# EAGLE library part RJ45-B-1_1 (library RJ45-B-1_1)
RJ45 12 1 Through Hole Ethernet Connectors/Modular Connectors (RJ45 RJ11 Source: Datasheet <https://datasheet.lcsc.com/szlcsc/1811141116_BOOMELE-Boom-Precision-Elec-RJ45-B-1-1_C138392.pdf>
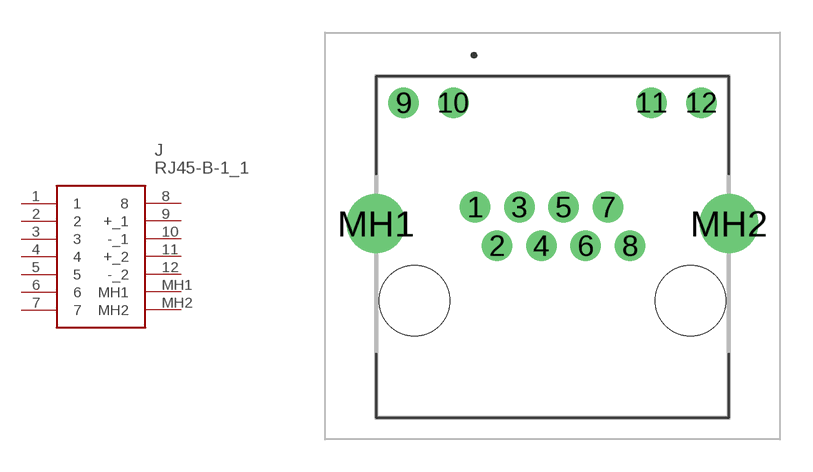
[diagram p0: symbol with the pads of RJ45B11; footprint RJ45B11]

Designator prefix J

## RJ45-B-1_1 (Description: RJ45 12 1 Through Hole Ethernet Connectors/Modular Connectors (RJ45 RJ11; Height: 13.1mm; Manufacturer_Name: BOOMELE(Boom Precision Elec); Manufacturer_Part_Number: RJ45-B-1*1)  [RJ45B11]
1  1
2  2
3  3
4  4
5  5
6  6
7  7
8  8
9  +_1
10  -_1
11  +_2
12  -_2
MH1  MH1
MH2  MH2

## Footprint RJ45B11 (pad centres in mm)
RJ45-B-1*1-1
drill 0.9 pad 1.4: 1 0,0; 2 1.02,-1.78; 3 2.04,0; 4 3.06,-1.78; 5 4.08,0; 6 5.1,-1.78; 7 6.12,0; 8 7.14,-1.78; 9 -3.29,4.81; 10 -1,4.81; 11 8.14,4.81; 12 10.43,4.81
drill 1.8 pad 2.7: MH1 -4.56,-0.76; MH2 11.7,-0.76
hole 3.25 at -2.78,-4.32
hole 3.25 at 9.92,-4.32